# Altium schematic symbol library module_ac2dc.SchLib: 5 symbols
Pins are listed as number, name and electrical type; pins without a type are passive.

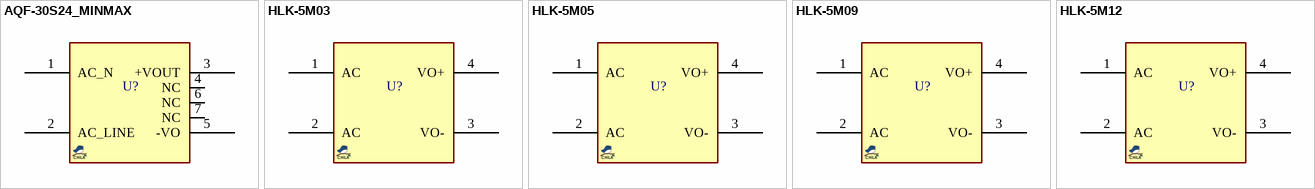
[diagram p0: symbols AQF-30S24_MINMAX to HLK-5M12]

## AQF-30S24_MINMAX
designator U?, comment AQF-30S24  (value not drawn)
AC/DC CONVERTER, no terminal; MANF: MINMAX; PARAM2: 24v, 30w; MANF_P#: AQF-30S24; VALUE: AQF-30S24
footprint MINMAX_AQF30 (DC-DC Module, AQF-30)
pins: 1 AC_N (power), 2 AC_LINE (power), 3 +VOUT (power), 4 NC (power), 5 -VO (power), 6 NC (power), 7 NC (power)

## HLK-5M03
designator U?  (value not drawn)
AC/DC CONVERTER; MANF: HI-LINK; PARAM2: 3.3v, 5w; MANF_P#: HLK-5M03; VALUE: HLK-5M03
footprint HLK5M_4_38X23 (HLK-5M AC/DC, 38X23X18mm)
pins: 1 AC (power), 2 AC (power), 3 VO- (power), 4 VO+ (power)

## HLK-5M05
designator U?  (value not drawn)
AC/DC CONVERTER; MANF: HI-LINK; PARAM2: 5v, 5w; MANF_P#: HLK-5M05; VALUE: HLK-5M05
footprint HLK5M_4_38X23 (HLK-5M AC/DC, 38X23X18mm)
pins: 1 AC (power), 2 AC (power), 3 VO- (power), 4 VO+ (power)

## HLK-5M09
designator U?  (value not drawn)
AC/DC CONVERTER; MANF: HI-LINK; PARAM2: 9v, 5w; MANF_P#: HLK-5M09; VALUE: HLK-5M09
footprint HLK5M_4_38X23 (HLK-5M AC/DC, 38X23X18mm)
pins: 1 AC (power), 2 AC (power), 3 VO- (power), 4 VO+ (power)

## HLK-5M12
designator U?  (value not drawn)
AC/DC CONVERTER; MANF: HI-LINK; PARAM2: 12v, 5w; MANF_P#: HLK-5M12; VALUE: HLK-5M12
footprint HLK5M_4_38X23 (HLK-5M AC/DC, 38X23X18mm)
pins: 1 AC (power), 2 AC (power), 3 VO- (power), 4 VO+ (power)